# EAGLE library part ADS7803 (library burr-brown)
Autocalibrating, 4-Channel, 12-Bit ADC
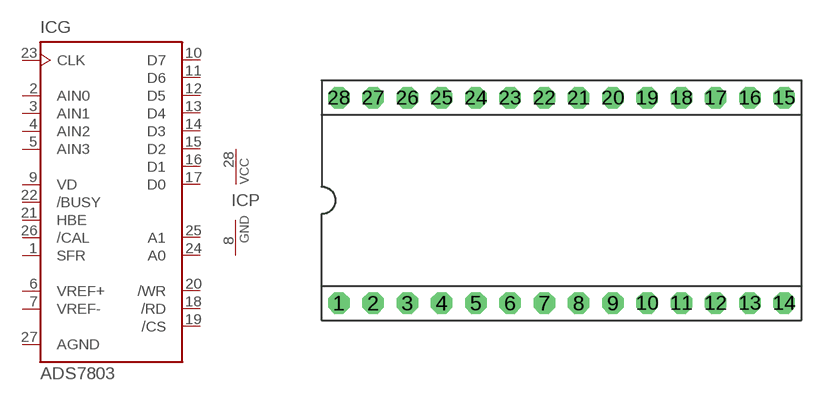
[diagram p168: symbol with the pads of DIL28; footprint DIL28]

Designator prefix IC; gates P=PWRN G=ADS7803

## ADS7803P (OC_FARNELL: unknown; OC_NEWARK: unknown)  [DIL28]
1  G:SFR  in
2  G:AIN0  in
3  G:AIN1  in
4  G:AIN2  in
5  G:AIN3  in
6  G:VREF+
7  G:VREF-
8  P:GND  pwr
9  G:VD
10  G:D7  hiz
11  G:D6  hiz
12  G:D5  hiz
13  G:D4  hiz
14  G:D3  hiz
15  G:D2  hiz
16  G:D1  hiz
17  G:D0  hiz
18  G:/RD  in
19  G:/CS  in
20  G:/WR  in
21  G:HBE  in
22  G:/BUSY  in
23  G:CLK  in
24  G:A0  in
25  G:A1  in
26  G:/CAL  in
27  G:AGND  pwr
28  P:VCC  pwr

## Footprint DIL28 (pad centres in mm)
Dual In Line
drill 0.813 pad 1.6 octagon: 1 -16.51,-7.62; 2 -13.97,-7.62; 3 -11.43,-7.62; 4 -8.89,-7.62; 5 -6.35,-7.62; 6 -3.81,-7.62; 7 -1.27,-7.62; 8 1.27,-7.62; 9 3.81,-7.62; 10 6.35,-7.62; 11 8.89,-7.62; 12 11.43,-7.62; 13 13.97,-7.62; 14 16.51,-7.62; 15 16.51,7.62; 16 13.97,7.62; 17 11.43,7.62; 18 8.89,7.62; 19 6.35,7.62; 20 3.81,7.62; 21 1.27,7.62; 22 -1.27,7.62; 23 -3.81,7.62; 24 -6.35,7.62; 25 -8.89,7.62; 26 -11.43,7.62; 27 -13.97,7.62; 28 -16.51,7.62